# Altium schematic symbol library ADP5070AREZ.SchLib: 1 symbol
Pins are listed as number, name and electrical type; pins without a type are passive.

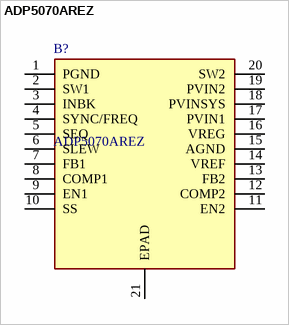
[diagram p0: symbol ADP5070AREZ]

## ADP5070AREZ
designator B?
Switching Voltage Regulators uPMU V+/V- sw reg for bipolarADC/DAC/AMP; Manufacturer_Name: Analog Devices; Geometry.Height: 1.2mm; Manufacturer_Part_Number: ADP5070AREZ; Mouser Part Number: 584-ADP5070AREZ; Mouser Price/Stock: https://www.mouser.co.uk/ProductDetail/Analog-Devices/ADP5070AREZ?qs=NEWnq6vH5Lcc%2FMGqhfnITw%3D%3D; Arrow Part Number: ADP5070AREZ; Arrow Price/Stock: https://www.arrow.com/en/products/adp5070arez/analog-devices?region=nac; Datasheet Link: https://www.analog.com/media/en/technical-documentation/data-sheets/adp5070.pdf
footprint SOP65P640X120-21N
pins: 1 PGND, 2 SW1, 3 INBK, 4 SYNC/FREQ, 5 SEQ, 6 SLEW, 7 FB1, 8 COMP1, 9 EN1, 10 SS, 11 EN2, 12 COMP2, 13 FB2, 14 VREF, 15 AGND, 16 VREG, 17 PVIN1, 18 PVINSYS, 19 PVIN2, 20 SW2, 21 EPAD